# EAGLE library part 12PIN_CON_AMP (library OpenMotics)
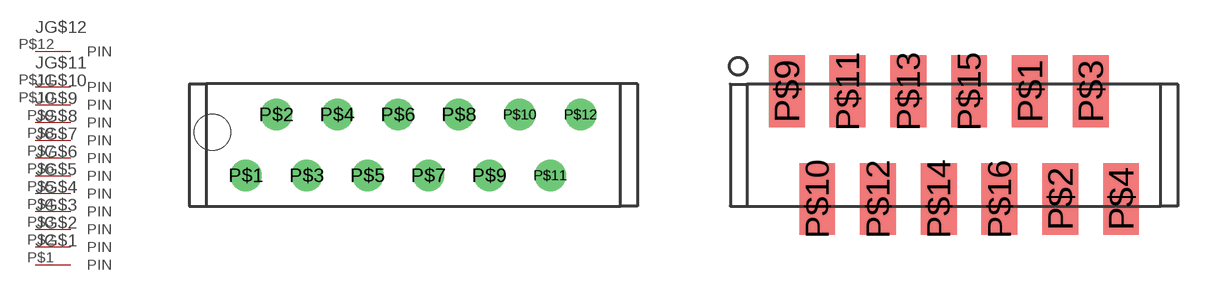
[diagram p3: symbol with the pads of 12PIN_CON_AMP; footprints 12PIN_CON_AMP, 12PIN_CON_AMP_SMD]

Designator prefix J; gates G$1=PIN G$2=PIN G$3=PIN G$4=PIN G$5=PIN G$6=PIN G$7=PIN G$8=PIN G$9=PIN G$10=PIN G$11=PIN G$12=PIN

## 12PIN_CON_AMP  [12PIN_CON_AMP]
P$1  G$1:PIN
P$2  G$2:PIN
P$3  G$3:PIN
P$4  G$4:PIN
P$5  G$5:PIN
P$6  G$6:PIN
P$7  G$7:PIN
P$8  G$8:PIN
P$9  G$9:PIN
P$10  G$10:PIN
P$11  G$11:PIN
P$12  G$12:PIN

## 12PIN_CON_AMPSMD  [12PIN_CON_AMP_SMD]
P$1  G$9:PIN
P$2  G$10:PIN
P$3  G$11:PIN
P$4  G$12:PIN
P$9  G$1:PIN
P$10  G$2:PIN
P$11  G$3:PIN
P$12  G$4:PIN
P$13  G$5:PIN
P$14  G$6:PIN
P$15  G$7:PIN
P$16  G$8:PIN

## Footprint 12PIN_CON_AMP (pad centres in mm)
drill 0.8 round: P$1 0,-1.27; P$2 1.27,1.27; P$3 2.54,-1.27; P$4 3.81,1.27; P$5 5.08,-1.27; P$6 6.35,1.27; P$7 7.62,-1.27; P$8 8.89,1.27; P$9 10.16,-1.27; P$10 11.43,1.27; P$11 12.7,-1.27; P$12 13.97,1.27
hole 1.5 at -1.4,0.53

## Footprint 12PIN_CON_AMP_SMD (pad centres in mm)
smd 1.5 x 3: P$1 10.16,2.25; P$2 11.43,-2.25; P$3 12.7,2.25; P$4 13.97,-2.25; P$9 0,2.25; P$10 1.27,-2.25; P$11 2.54,2.25; P$12 3.81,-2.25; P$13 5.08,2.25; P$14 6.35,-2.25; P$15 7.62,2.25; P$16 8.89,-2.25